# Altium schematic symbol library PartsSchLib.SchLib: 13 symbols
Pins are listed as number, name and electrical type; pins without a type are passive.

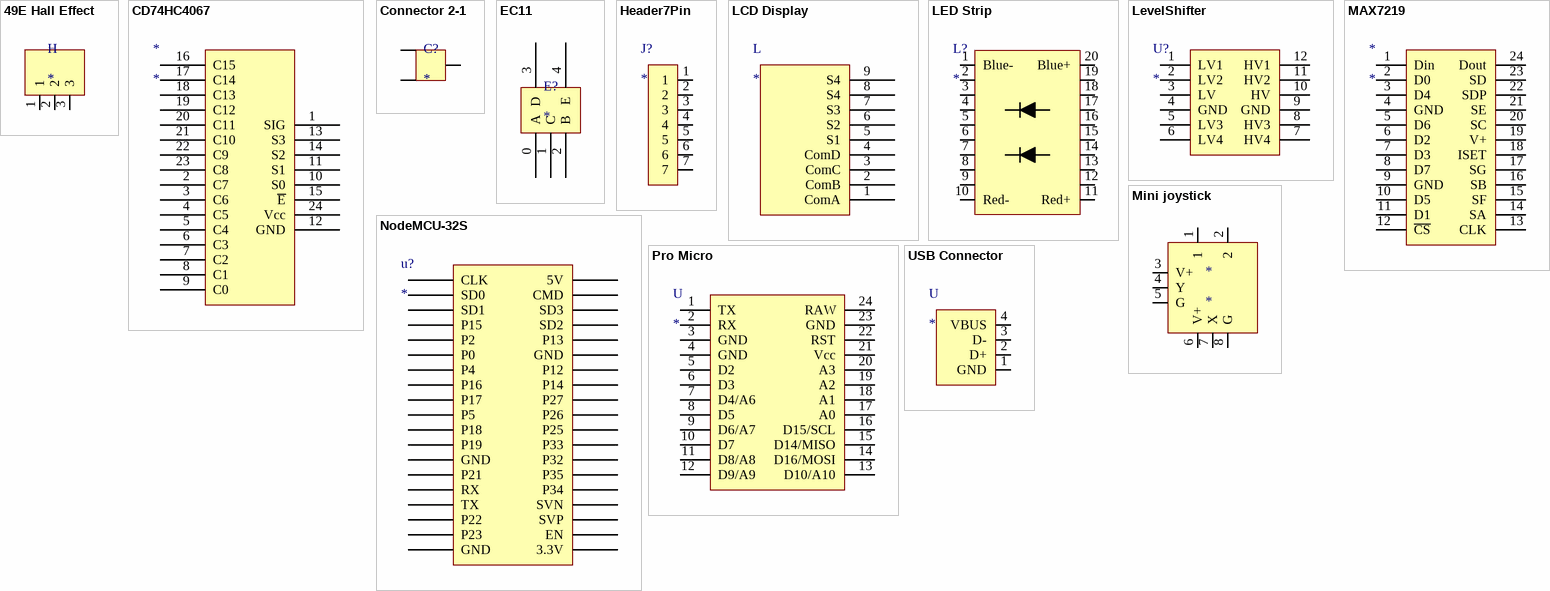
[diagram p0: symbols 49E Hall Effect to USB Connector]

## 49E Hall Effect
designator H
pins: 1, 2, 3

## CD74HC4067
designator *
Analog Multiplexer
footprint CD74HC4067 (MUX)
pins: 1 SIG, 2 C7, 3 C6, 4 C5, 5 C4, 6 C3, 7 C2, 8 C1, 9 C0, 10 S0, 11 S1, 12 GND, 13 S3, 14 S2, 15 ~{E}, 16 C15, 17 C14, 18 C13, 19 C12, 20 C11, 21 C10, 22 C9, 23 C8, 24 Vcc

## Connector 2-1
designator C?
pins: 1, 2, 3

## EC11
designator E?
Rot Encoder / C GND / Pull up A,B
footprint Encoder
pins: 0 A, 1 C, 2 B, 3 D, 4 E

## Header7Pin
designator J?
footprint Header7Pin
pins: 1, 2, 3, 4, 5, 6, 7

## LCD Display
designator L
footprint LCD Display
pins: 1 ComA, 2 ComB, 3 ComC, 4 ComD, 5 S1, 6 S2, 7 S3, 8 S4, 9 S4

## LED Strip
designator L?
pins: 1 Blue-, 2, 3, 4, 5, 6, 7, 8, 9, 10 Red-, 11 Red+, 12, 13, 14, 15, 16, 17, 18, 19, 20 Blue+

## LevelShifter
designator U?
footprint LevelShifter
pins: 1 LV1, 2 LV2, 3 LV, 4 GND, 5 LV3, 6 LV4, 7 HV4, 8 HV3, 9 GND, 10 HV, 11 HV2, 12 HV1

## MAX7219
designator *
https://datasheets.maximintegrated.com/en/ds/MAX7219-MAX7221.pdf
footprint DIP24 x 300mil
pins: 1 Din, 2 D0, 3 D4, 4 GND, 5 D6, 6 D2, 7 D3, 8 D7, 9 GND, 10 D5, 11 D1, 12 ~{CS}, 13 CLK, 14 SA, 15 SF, 16 SB, 17 SG, 18 ISET, 19 V+, 20 SC, 21 SE, 22 SDP, 23 SD, 24 Dout

## Mini joystick
designator *
footprint MiniJoyStick
pins: 1, 2, 3 V+, 4 Y, 5 G, 6 V+, 7 X, 8 G

## NodeMCU-32S
designator u?
footprint DIP36
pins: 1 CLK, 2 SD0, 3 SD1, 4 P15, 5 P2, 6 P0, 7 P4, 8 P16, 9 P17, 10 P5, 11 P18, 12 P19, 13 GND, 14 P21, 15 RX, 16 TX, 17 P22, 18 P23, 19 GND, 20 3.3V, 21 EN, 22 SVP, 23 SVN, 24 P34, 25 P35, 26 P32, 27 P33, 28 P25, 29 P26, 30 P27, 31 P14, 32 P12, 33 GND, 34 P13, 35 SD2, 36 SD3, 37 CMD, 38 5V

## Pro Micro
designator U
footprint DIP24 x 600mil
pins: 1 TX, 2 RX, 3 GND, 4 GND, 5 D2, 6 D3, 7 D4/A6, 8 D5, 9 D6/A7, 10 D7, 11 D8/A8, 12 D9/A9, 13 D10/A10, 14 D16/MOSI, 15 D14/MISO, 16 D15/SCL, 17 A0, 18 A1, 19 A2, 20 A3, 21 Vcc, 22 RST, 23 GND, 24 RAW

## USB Connector
designator U
footprint USB-B
pins: 1 GND, 2 D+, 3 D-, 4 VBUS